# Altium footprint library hotair.PcbLib: 1 footprints
Each footprint in its own frame and in the unit in brackets; x right, y up, seen from the top. Pads: shape width x height; smd on the part's side, far side on the other; paste and mask are expansions set on the pad; w line width, h text height; cw(c..) or ccw(c..) is an arc to the next point about the centre after c.
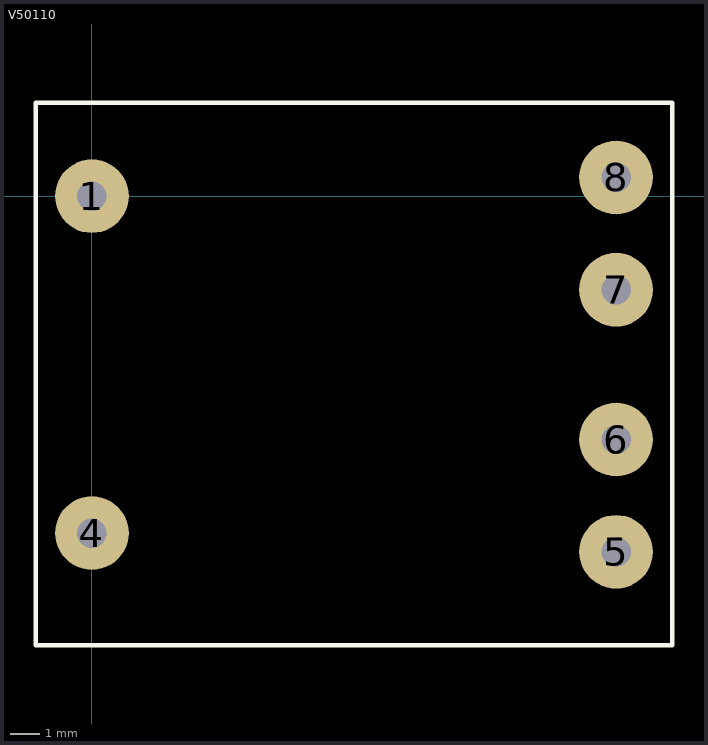
[diagram p0: the footprint, top view; thin cyan lines are the x and y axes]

## V50110 [mm]
pads (6):
  round 2.5 hole 1: 1(0,0) 4(0,-11.43) 5(17.78,-12.065) 6(17.78,-8.255) 7(17.78,-3.175) 8(17.78,0.635)
Top Overlay:
  lines w0.15: -1.905,-15.24 19.685,-15.24 19.685,3.175 -1.905,3.175 -1.905,-15.24